# Altium footprint library CONN-SPE_SEM-0105-02-03-X-D.PcbLib: 1 footprints
Each footprint in its own frame and in the unit in brackets; x right, y up, seen from the top. Pads: shape width x height; smd on the part's side, far side on the other; paste and mask are expansions set on the pad; w line width, h text height; cw(c..) or ccw(c..) is an arc to the next point about the centre after c.
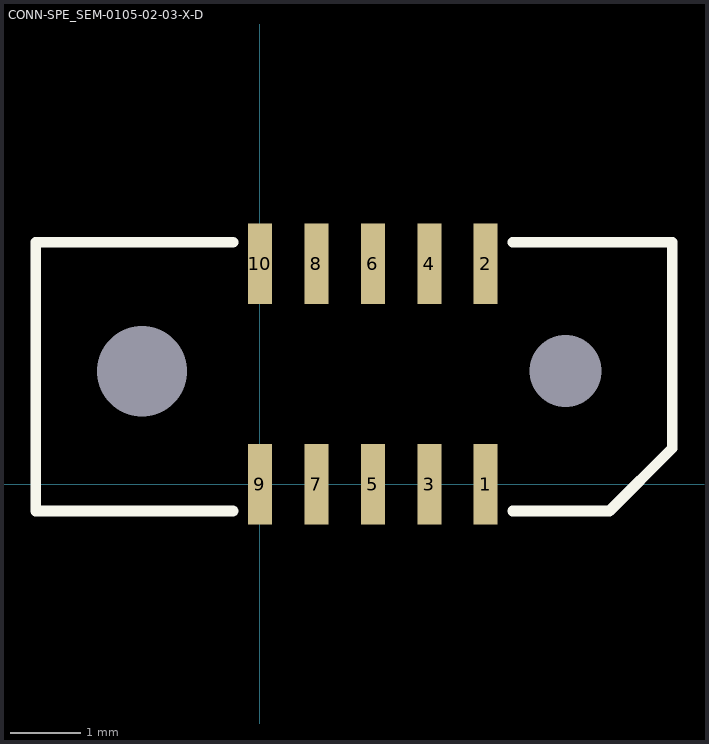
[diagram p0: the footprint, top view; thin cyan lines are the x and y axes]

## CONN-SPE_SEM-0105-02-03-X-D [mm]
pads (12):
  round 0 hole 1.28: 0(-1.67,1.6)
  round 0 hole 1.02: 0(4.33,1.6)
  rect 0.34x1.14 smd: 1(3.2,0) 2(3.2,3.12) 3(2.4,0) 4(2.4,3.12) 5(1.6,0) 6(1.6,3.12) 7(0.8,0) 8(0.8,3.12) 9(0,0) 10(0,3.12)
Top Overlay:
  lines w0.15: -0.381,-0.381 -3.175,-0.381 -3.175,3.429 -0.381,3.429 ; 3.581,-0.381 4.953,-0.381 5.842,0.508 5.842,3.429 3.581,3.429
3D body:
  text "3D body on this layer" at -10.16,5.842 h1
3D body: height 4.51, standoff -0.05, extent -2.913,-0.351 5.588,3.399